# Altium integrated library WS-ROSV SMD Rotary Switch 10x10 mm.IntLib: 12 symbols
Pins are listed as number, name and electrical type; pins without a type are passive.

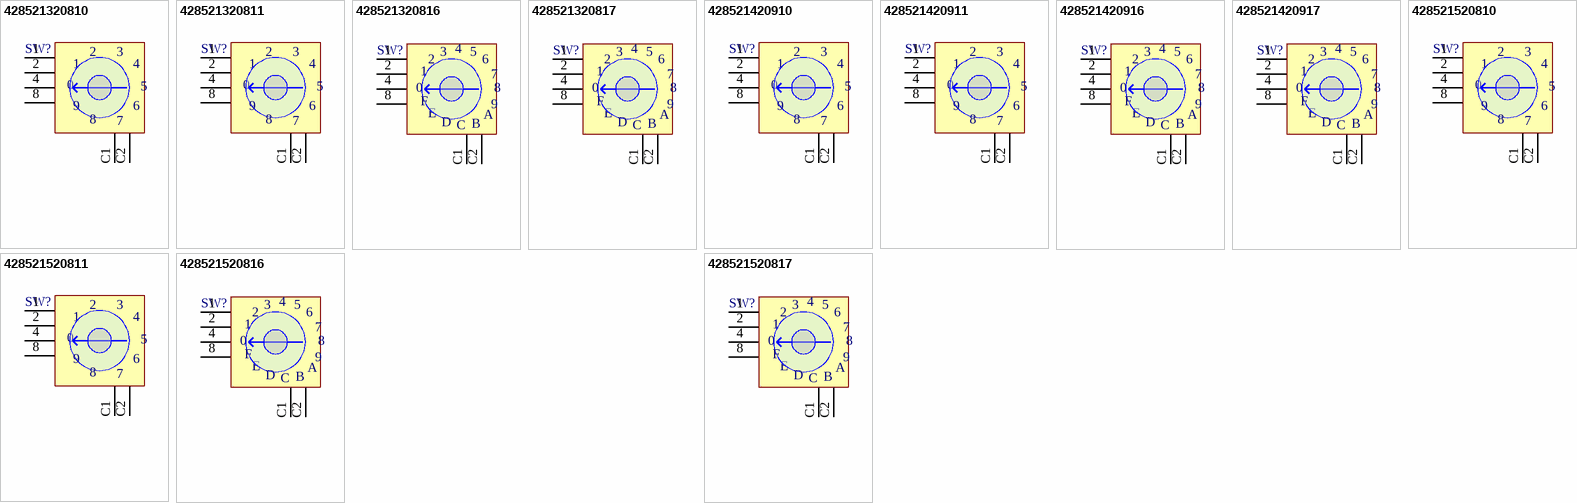
[diagram p0: symbols 428521320810 to 428521520817]

## 428521320810
designator SW?
WS-ROSV SMD Rotary Switch 10x10 mm; PartNumber: 428521320810; NoPins: 06; PackageReference: 428521320810; ComponentLink1Description: Manufacturer URL; ComponentLink1URL: http://www.we-online.com; ComponentLink2Description: Datasheet; ComponentLink2URL: http://katalog.we-online.de/em/datasheet/428521320810.pdf
footprint 428521320810 (10 position, 2.54mm Pitch, Horizontal type, SMD, Round Arrow type, light grey actuator, real code, T&R)
pins: 1, 2, 4, 8, C1, C2
text: 3; 0; 5; 9; 6; 7

## 428521320811
designator SW?
WS-ROSV SMD Rotary Switch 10x10 mm; PartNumber: 428521320811; NoPins: 06; PackageReference: 428521320811; ComponentLink1Description: Manufacturer URL; ComponentLink1URL: http://www.we-online.com; ComponentLink2Description: Datasheet; ComponentLink2URL: http://katalog.we-online.de/em/datasheet/428521320811.pdf
footprint 428521320811 (10 position, 2.54mm Pitch, Horizontal type, SMD, Round Arrow type, blue actuator, complement code, T&R)
pins: 1, 2, 4, 8, C1, C2
text: 3; 0; 5; 9; 6; 7

## 428521320816
designator SW?
WS-ROSV SMD Rotary Switch 10x10 mm; PartNumber: 428521320816; NoPins: 06; PackageReference: 428521320816; ComponentLink1Description: Manufacturer URL; ComponentLink1URL: http://www.we-online.com; ComponentLink2Description: Datasheet; ComponentLink2URL: http://katalog.we-online.de/em/datasheet/428521320816.pdf
footprint 428521320816 (16 position, 2.54mm Pitch, Horizontal type, SMD, Round Arrow)
pins: 1, 2, 4, 8, C1, C2
text: 3; 5; 6; 7; 0; F; 9; E; A; D; C; B

## 428521320817
designator SW?
WS-ROSV SMD Rotary Switch 10x10 mm; PartNumber: 428521320817; NoPins: 06; PackageReference: 428521320817; ComponentLink1Description: Manufacturer URL; ComponentLink1URL: http://www.we-online.com; ComponentLink2Description: Datasheet; ComponentLink2URL: http://katalog.we-online.de/em/datasheet/428521320817.pdf
footprint 428521320817 (16 position, 2.54mm Pitch, Horizontal type, SMD, Round Arrow type, blue actuator, complement code, T&R)
pins: 1, 2, 4, 8, C1, C2
text: 3; 5; 6; 7; 0; F; 9; E; A; D; C; B

## 428521420910
designator SW?
WS-ROSV SMD Rotary Switch 10x10 mm; PartNumber: 428521420910; NoPins: 06; PackageReference: 428521420910; ComponentLink1Description: Manufacturer URL; ComponentLink1URL: http://www.we-online.com; ComponentLink2Description: Datasheet; ComponentLink2URL: http://katalog.we-online.de/em/datasheet/428521420910.pdf
footprint 428521420910 (10 position, 2.54mm Pitch, Horizontal type, SMD, Round Shaft type, light grey actuator, real code, Tube)
pins: 1, 2, 4, 8, C1, C2
text: 3; 0; 5; 9; 6; 7

## 428521420911
designator SW?
WS-ROSV SMD Rotary Switch 10x10 mm; PartNumber: 428521420911; NoPins: 06; PackageReference: 428521420911; ComponentLink1Description: Manufacturer URL; ComponentLink1URL: http://www.we-online.com; ComponentLink2Description: Datasheet; ComponentLink2URL: http://katalog.we-online.de/em/datasheet/428521420911.pdf
footprint 428521420911 (10 position, 2.54mm Pitch, Horizontal type, SMD, Round Shaft type, blue actuator, complement code,Tube)
pins: 1, 2, 4, 8, C1, C2
text: 3; 0; 5; 9; 6; 7

## 428521420916
designator SW?
WS-ROSV SMD Rotary Switch 10x10 mm; PartNumber: 428521420916; NoPins: 06; PackageReference: 428521420916; ComponentLink1Description: Manufacturer URL; ComponentLink1URL: http://www.we-online.com; ComponentLink2Description: Datasheet; ComponentLink2URL: http://katalog.we-online.de/em/datasheet/428521420916.pdf
footprint 428521420916 (16 position, 2.54mm Pitch, Horizontal type, SMD, Round Shaft type, light grey actuator, real code, Tube)
pins: 1, 2, 4, 8, C1, C2
text: 3; 5; 6; 7; 0; F; 9; E; A; D; C; B

## 428521420917
designator SW?
WS-ROSV SMD Rotary Switch 10x10 mm; PartNumber: 428521420917; NoPins: 06; PackageReference: 428521420917; ComponentLink1Description: Manufacturer URL; ComponentLink1URL: http://www.we-online.com; ComponentLink2Description: Datasheet; ComponentLink2URL: http://katalog.we-online.de/em/datasheet/428521420917.pdf
footprint 428521420917 (16 position, 2.54mm Pitch, Horizontal type, SMD, Round Shaft type, blue actuator, complement code, Tube)
pins: 1, 2, 4, 8, C1, C2
text: 3; 5; 6; 7; 0; F; 9; E; A; D; C; B

## 428521520810
designator SW?
WS-ROSV SMD Rotary Switch 10x10 mm; PartNumber: 428521520810; NoPins: 06; PackageReference: 428521520810; ComponentLink1Description: Manufacturer URL; ComponentLink1URL: http://www.we-online.com; ComponentLink2Description: Datasheet; ComponentLink2URL: http://katalog.we-online.de/em/datasheet/428521520810.pdf
footprint 428521520810 (10 position, 2.54mm Pitch, Horizontal type, SMD, Round Cross type, light grey actuator, real code, T&R)
pins: 1, 2, 4, 8, C1, C2
text: 3; 0; 5; 9; 6; 7

## 428521520811
designator SW?
WS-ROSV SMD Rotary Switch 10x10 mm; PartNumber: 428521520811; NoPins: 06; PackageReference: 428521520811; ComponentLink1Description: Manufacturer URL; ComponentLink1URL: http://www.we-online.com; ComponentLink2Description: Datasheet; ComponentLink2URL: http://katalog.we-online.de/em/datasheet/428521520811.pdf
footprint 428521520811 (10 position, 2.54mm Pitch, Horizontal type, SMD, Round Cross type, blue actuator, complement code, T&R)
pins: 1, 2, 4, 8, C1, C2
text: 3; 0; 5; 9; 6; 7

## 428521520816
designator SW?
WS-ROSV SMD Rotary Switch 10x10 mm; PartNumber: 428521520816; NoPins: 06; PackageReference: 428521520816; ComponentLink1Description: Manufacturer URL; ComponentLink1URL: http://www.we-online.com; ComponentLink2Description: Datasheet; ComponentLink2URL: http://katalog.we-online.de/em/datasheet/428521520816.pdf
footprint 428521520816 (16 position, 2.54mm Pitch, Horizontal type, SMD, Round Cross type, light grey actuator, real code, T&R)
pins: 1, 2, 4, 8, C1, C2
text: 3; 5; 6; 7; 0; F; 9; E; A; D; C; B

## 428521520817
designator SW?
WS-ROSV SMD Rotary Switch 10x10 mm; PartNumber: 428521520817; NoPins: 06; PackageReference: 428521520817; ComponentLink1Description: Manufacturer URL; ComponentLink1URL: http://www.we-online.com; ComponentLink2Description: Datasheet; ComponentLink2URL: http://katalog.we-online.de/em/datasheet/428521520817.pdf
footprint 428521520817 (16 position, 2.54mm Pitch, Horizontal type, SMD, Round Cross type, blue actuator, complement code, T&R)
pins: 1, 2, 4, 8, C1, C2
text: 3; 5; 6; 7; 0; F; 9; E; A; D; C; B